# EAGLE library part S22B-PUDSS-1 (library con-jst-pud)
JST connector, PUD series, 2.0mm spacing, crimp style, wire-to-board, 22 pin, side entry
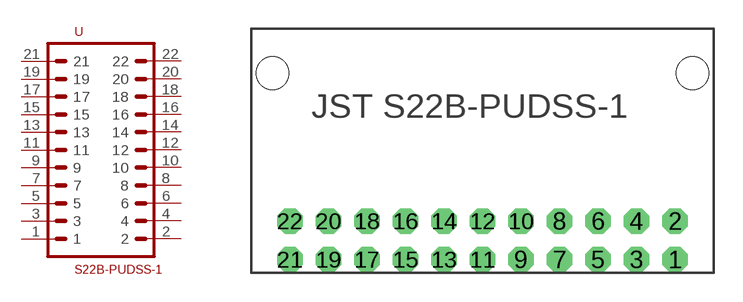
[diagram p0: symbol with the pads of PUD_22_PIN_SIDE_ENTRY; footprint PUD_22_PIN_SIDE_ENTRY]

Designator prefix -

## S22B-PUDSS-1 (DIGIKEY: 455-2492-ND; MF: JST; MPN: S22B-PUDSS-1)  [PUD_22_PIN_SIDE_ENTRY]
1  1
2  2
3  3
4  4
5  5
6  6
7  7
8  8
9  9
10  10
11  11
12  12
13  13
14  14
15  15
16  16
17  17
18  18
19  19
20  20
21  21
22  22

## Footprint PUD_22_PIN_SIDE_ENTRY (pad centres in mm)
drill 0.8 octagon: 1 10,-6; 2 10,-4; 3 8,-6; 4 8,-4; 5 6,-6; 6 6,-4; 7 4,-6; 8 4,-4; 9 2,-6; 10 2,-4; 11 0,-6; 12 0,-4; 13 -2,-6; 14 -2,-4; 15 -4,-6; 16 -4,-4; 17 -6,-6; 18 -6,-4; 19 -8,-6; 20 -8,-4; 21 -10,-6; 22 -10,-4
hole 1.7 at 10.9,3.7
hole 1.7 at -10.9,3.7